# EAGLE library part ADP2291ARMZ-R7 (library Battery Chargers)
Charger IC Lithium-Ion 8-MSOP Manufacturer's datasheet <https://www.analog.com/media/en/technical-documentation/data-sheets/ADP2291.pdf>
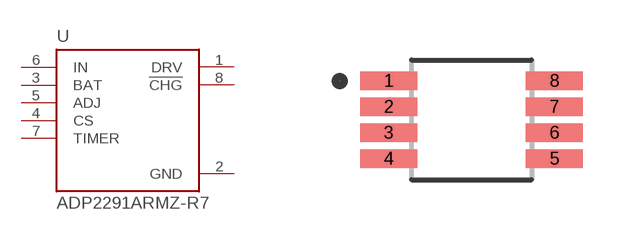
[diagram p12: symbol with the pads of ADP2291ARMZ-R7; footprint ADP2291ARMZ-R7]

Designator prefix U

## ADP2291ARMZ-R7 (CREATED_BY: PCBLayout.com; DIGIKEY_PART_NUMBER: ADP2291ARMZ-R7CT-ND; MANUFACTURER: Analog Devices Inc.; MPN: ADP2291ARMZ-R7; PACKAGE: 8-MSOP)  [ADP2291ARMZ-R7]
1  DRV  out
2  GND  pwr
3  BAT  in
4  CS  in
5  ADJ  in
6  IN  in
7  TIMER  pas
8  !CHG  out

## Footprint ADP2291ARMZ-R7 (pad centres in mm)
smd 1.42 x 0.46: 1 -2.07,0.975; 2 -2.07,0.325; 3 -2.07,-0.325; 4 -2.07,-0.975; 5 2.07,-0.975; 6 2.07,-0.325; 7 2.07,0.325; 8 2.07,0.975